# EAGLE library part ESP8266_UART (library rx)
Multi connection point. Often used as Generic Header-pin footprint for 0.1 inch spaced/style header connections On any of the 0.1 inch spaced packages, you can populate with these: Break Away Headers - Straight <https://www.sparkfun.com/products/116> (PRT-00116) Break Away Male Headers - Right Angle <https://www.sparkfun.com/products/553> (PRT-00553) Female Headers <https://www.sparkfun.com/products/115> (PRT-00115) Break Away Headers - Machine Pin <https://www.sparkfun.com/products/117> (PRT-00117) Break Away Female Headers - Swiss Machine Pin <https://www.sparkfun.com/products/743> (PRT-00743)
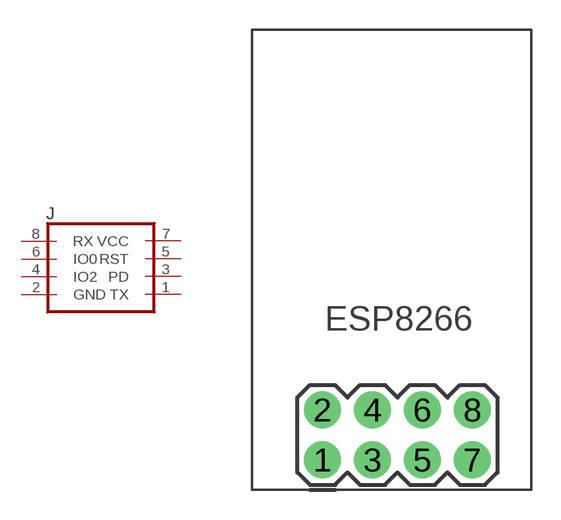
[diagram p1: symbol with the pads of ESP8266_UART; footprint ESP8266_UART]

Designator prefix J

## ESP8266_UART  [ESP8266_UART]
1  TX
2  GND
3  PD
4  IO2
5  RST
6  IO0
7  VCC
8  RX

## Footprint ESP8266_UART (pad centres in mm)
Plated Through Hole - 2x4 Specifications: Pin count:8 Pin pitch:0.1" Example device(s): CONN_04x2
drill 1.016 pad 1.88: 1 -10.61,1.53; 2 -10.61,4.07; 3 -8.07,1.53; 4 -8.07,4.07; 5 -5.53,1.53; 6 -5.53,4.07; 7 -2.99,1.53; 8 -2.99,4.07